# EAGLE library part USB-MICRO-105133-0011 (library gametroller)
Conn Micro USB Type B RCP 5 POS 0.65mm Solder ST SMD 5 Terminal 1 Port Embossed T/R
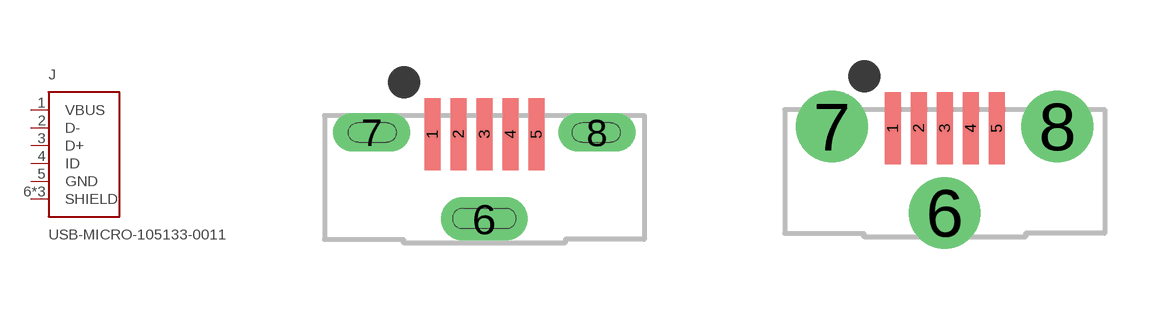
[diagram p11: symbol with the pads of MOLEX_105133-0011; footprints MOLEX_105133-0011, MOLEX_105133-0011_NOSLOTS]

Designator prefix J

## USB-MICRO-105133-0011 (MFG: Molex; MPN: 1051330011; PN-DK: WM9734CT-ND)  [MOLEX_105133-0011]
1  VBUS  pwr
2  D-
3  D+
4  ID  pas
5  GND  pas
6  SHIELD  pas
7  SHIELD  pas
8  SHIELD  pas

## USB-MICRO-105133-0011-NOSLOTS (MFG: Molex; MPN: 1051330011; PN-DK: WM9734CT-ND)  [MOLEX_105133-0011_NOSLOTS]
Pads as for MOLEX_105133-0011

## Footprint MOLEX_105133-0011 (pad centres in mm)
Conn Micro USB Type B RCP 5 POS 0.65mm Solder ST SMD 5 Terminal 1 Port Embossed T/R
smd 0.4 x 1.8: 1 -1.3,1.23; 2 -0.65,1.23; 3 0,1.23; 4 0.65,1.23; 5 1.3,1.23
drill 0.457 pad 1.092 long: 6 0,-0.889
drill 0.457 pad 0.94 long: 7 -2.819,1.27; 8 2.819,1.27

## Footprint MOLEX_105133-0011_NOSLOTS (pad centres in mm)
Conn Micro USB Type B RCP 5 POS 0.65mm Solder ST SMD 5 Terminal 1 Port Embossed T/R
smd 0.4 x 1.8: 1 -1.3,1.23; 2 -0.65,1.23; 3 0,1.23; 4 0.65,1.23; 5 1.3,1.23
drill 1.194: 6 0,-0.889; 7 -2.819,1.27; 8 2.819,1.27